# Altium schematic symbol library mbialon.SchLib: 7 symbols
Pins are listed as number, name and electrical type; pins without a type are passive.

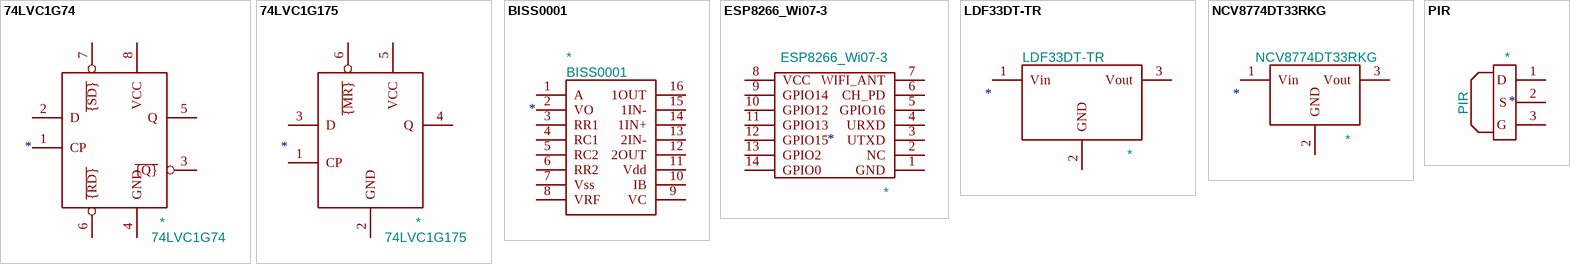
[diagram p0: symbols 74LVC1G74 to PIR]

## 74LVC1G74
designator *  value 74LVC1G74
pins: 1 CP, 2 D, 3 ~{{Q}}, 4 GND, 5 Q, 6 ~{{RD}}, 7 ~{{SD}}, 8 VCC

## 74LVC1G175
designator *  value 74LVC1G175
pins: 1 CP, 2 GND, 3 D, 4 Q, 5 VCC, 6 ~{{MR}}

## BISS0001
designator *  value BISS0001
pins: 1 A, 2 VO, 3 RR1, 4 RC1, 5 RC2, 6 RR2, 7 Vss, 8 VRF, 9 VC, 10 IB, 11 Vdd, 12 2OUT, 13 2IN-, 14 1IN+, 15 1IN-, 16 1OUT

## ESP8266_Wi07-3
designator *  value ESP8266_Wi07-3
pins: 1 GND, 2 NC, 3 UTXD, 4 URXD, 5 GPIO16, 6 CH_PD, 7 WIFI_ANT, 8 VCC, 9 GPIO14, 10 GPIO12, 11 GPIO13, 12 GPIO15, 13 GPIO2, 14 GPIO0

## LDF33DT-TR
designator *  value LDF33DT-TR
pins: 1 Vin, 2 GND, 3 Vout

## NCV8774DT33RKG
designator *  value NCV8774DT33RKG
pins: 1 Vin, 2 GND, 3 Vout

## PIR
designator *  value PIR
pins: 1 D, 2 S, 3 G